# EAGLE library part AQM0802A-RN-GBW (library AQM0802A-RN-GBW)
AQM0802A-RN-GBW LCD
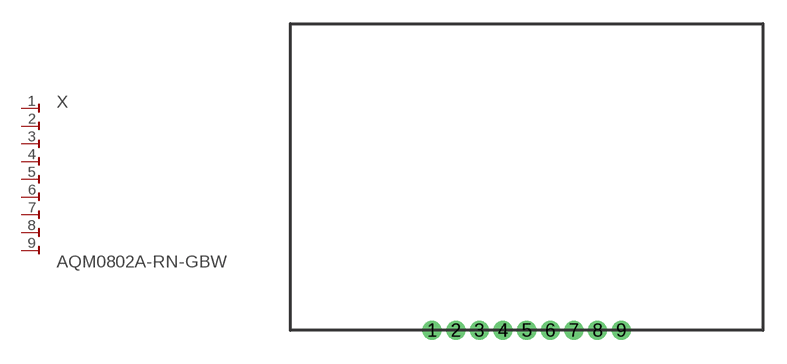
[diagram p0: symbol with the pads of AQM0802A-RN-GBW-FOOTPRINT; footprint AQM0802A-RN-GBW-FOOTPRINT]

Designator prefix X

## AQM0802A-RN-GBW  [AQM0802A-RN-GBW-FOOTPRINT]
1  1  pas
2  2  pas
3  3  pas
4  4  pas
5  5  pas
6  6  pas
7  7  pas
8  8  pas
9  9  pas

## Footprint AQM0802A-RN-GBW-FOOTPRINT (pad centres in mm)
AQM0802A-RN-GBW LCD
drill 0.7 pad 1: 1 -6,0; 2 -4.5,0; 3 -3,0; 4 -1.5,0; 5 0,0; 6 1.5,0; 7 3,0; 8 4.5,0; 9 6,0